# EAGLE library part DD (library WakamelibGOOD)
dd osc
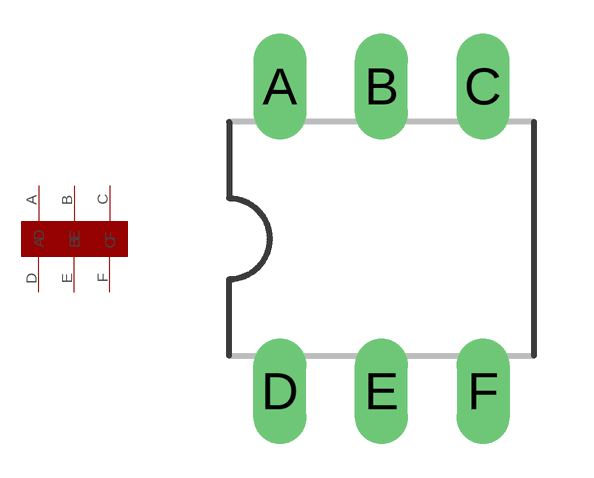
[diagram p0: symbol with the pads of DD; footprint DD]

Designator prefix -

## DD  [DD]
A  A
B  B
C  C
D  D
E  E
F  F

## Footprint DD (pad centres in mm)
drill 0.813 long: A -2.54,3.81; B 0,3.81; C 2.54,3.81; D -2.54,-3.81; E 0,-3.81; F 2.54,-3.81